# Altium schematic symbol library PI3302-03-LGIZ.SchLib: 1 symbol
Pins are listed as number, name and electrical type; pins without a type are passive.

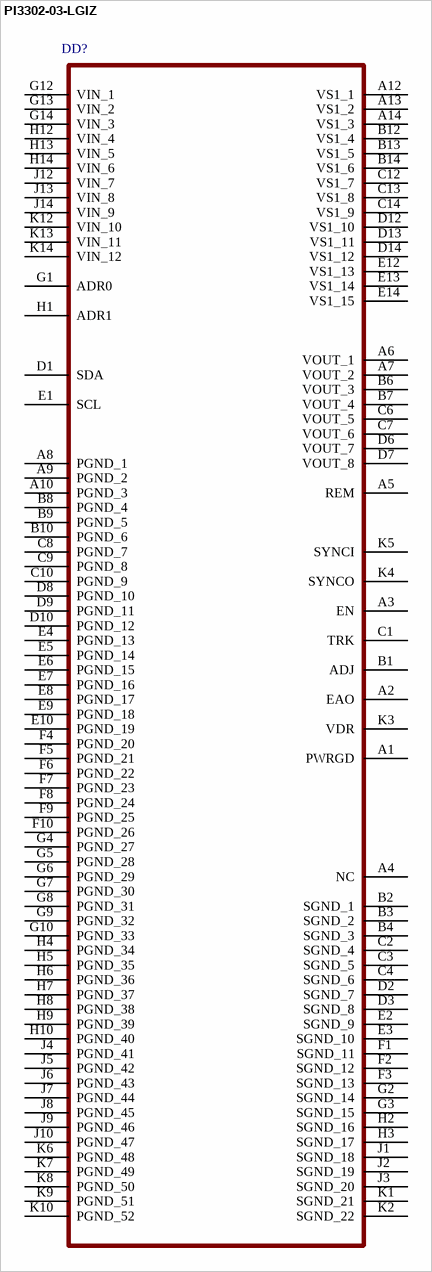
[diagram p0: symbol PI3302-03-LGIZ]

## PI3302-03-LGIZ
designator DD?
pins: A1 PWRGD, A2 EAO, A3 EN, A4 NC, A5 REM, A6 VOUT_1, A7 VOUT_2, A8 PGND_1, A9 PGND_2, A10 PGND_3, A12 VS1_1, A13 VS1_2, A14 VS1_3, B1 ADJ, B2 SGND_1, B3 SGND_2, B4 SGND_3, B6 VOUT_3, B7 VOUT_4, B8 PGND_4, B9 PGND_5, B10 PGND_6, B12 VS1_4, B13 VS1_5, B14 VS1_6, C1 TRK, C2 SGND_4, C3 SGND_5, C4 SGND_6, C6 VOUT_5, C7 VOUT_6, C8 PGND_7, C9 PGND_8, C10 PGND_9, C12 VS1_7, C13 VS1_8, C14 VS1_9, D1 SDA, D2 SGND_7, D3 SGND_8, D6 VOUT_7, D7 VOUT_8, D8 PGND_10, D9 PGND_11, D10 PGND_12, D12 VS1_10, D13 VS1_11, D14 VS1_12, E1 SCL, E2 SGND_9, E3 SGND_10, E4 PGND_13, E5 PGND_14, E6 PGND_15, E7 PGND_16, E8 PGND_17, E9 PGND_18, E10 PGND_19, E12 VS1_13, E13 VS1_14, E14 VS1_15, F1 SGND_11, F2 SGND_12, F3 SGND_13, F4 PGND_20, F5 PGND_21, F6 PGND_22, F7 PGND_23, F8 PGND_24, F9 PGND_25, F10 PGND_26, G1 ADR0, G2 SGND_14, G3 SGND_15, G4 PGND_27, G5 PGND_28, G6 PGND_29, G7 PGND_30, G8 PGND_31, G9 PGND_32, G10 PGND_33, G12 VIN_1, G13 VIN_2, G14 VIN_3, H1 ADR1, H2 SGND_16, H3 SGND_17, H4 PGND_34, H5 PGND_35, H6 PGND_36, H7 PGND_37, H8 PGND_38, H9 PGND_39, H10 PGND_40, H12 VIN_4, H13 VIN_5, H14 VIN_6, J1 SGND_18, J2 SGND_19, J3 SGND_20, J4 PGND_41, J5 PGND_42, J6 PGND_43, J7 PGND_44, J8 PGND_45, J9 PGND_46, J10 PGND_47, J12 VIN_7, J13 VIN_8, J14 VIN_9, K1 SGND_21, K2 SGND_22, K3 VDR, K4 SYNCO, K5 SYNCI, K6 PGND_48, K7 PGND_49, K8 PGND_50, K9 PGND_51, K10 PGND_52, K12 VIN_10, K13 VIN_11, K14 VIN_12